# EAGLE library part LT6000IDCB#TRMPBF (library mbed-HDK-IC)
IC OPAMP GBP 60KHZ RRO 6DFN
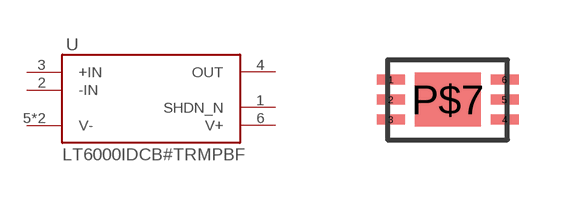
[diagram p12: symbol with the pads of 6-DFN; footprint 6-DFN]

Designator prefix U

## LT6000IDCB#TRMPBF (MF: Linear Technology; MFN: LT6000IDCB#TRMPBF; OC-DIGIKEY: LT6000IDCB#TRMPBFCT-ND; OC-NEWARK: 95M6567)  [6-DFN]
1  SHDN_N
2  -IN
3  +IN
4  OUT
5  V-
6  V+
P$7  V-

## Footprint 6-DFN (pad centres in mm)
smd 0.7 x 0.25: 1 0,0; 2 0,-0.5; 3 0,-1; 4 2.85,-1; 5 2.85,-0.5; 6 2.85,0
smd 1.65 x 1.35: P$7 1.425,-0.5